# EAGLE library part WIFI-MRF24WB0MA (library Module)
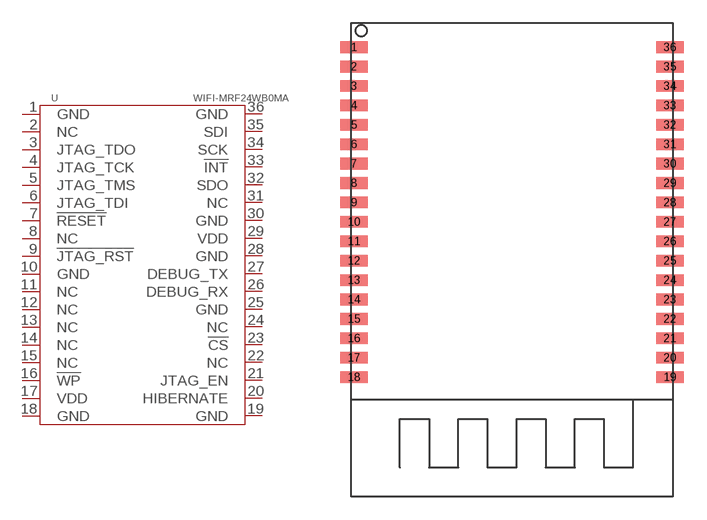
[diagram p14: symbol with the pads of 36P-SMD-31X21; footprint 36P-SMD-31X21]

Designator prefix U

## WIFI-MRF24WB0MA_SMT  [36P-SMD-31X21]
1  GND  pwr
2  NC  hiz
3  JTAG_TDO  out
4  JTAG_TCK  in
5  JTAG_TMS  in
6  JTAG_TDI  in
7  !RESET  in
8  NC  hiz
9  !JTAG_RST  in
10  GND  pwr
11  NC  hiz
12  NC  hiz
13  NC  hiz
14  NC  hiz
15  NC  hiz
16  !WP  in
17  VDD  pwr
18  GND  pwr
19  GND  pwr
20  HIBERNATE  in
21  JTAG_EN  in
22  NC  hiz
23  !CS  in
24  NC  hiz
25  GND  pwr
26  DEBUG_RX  in
27  DEBUG_TX  out
28  GND  pwr
29  VDD  pwr
30  GND  pwr
31  NC  hiz
32  SDO  out
33  !INT  out
34  SCK  in
35  SDI  in
36  GND  pwr

## Footprint 36P-SMD-31X21 (pad centres in mm)
smd 1.778 x 0.762: 1 -10.624,23.695; 2 -10.624,22.425; 3 -10.624,21.155; 4 -10.624,19.885; 5 -10.624,18.615; 6 -10.624,17.345; 7 -10.624,16.075; 8 -10.624,14.805; 9 -10.624,13.535; 10 -10.624,12.265; 11 -10.624,10.995; 12 -10.624,9.725; 13 -10.624,8.455; 14 -10.624,7.185; 15 -10.624,5.915; 16 -10.624,4.645; 17 -10.624,3.375; 18 -10.624,2.105; 19 10.034,2.105; 20 10.034,3.375; 21 10.034,4.645; 22 10.034,5.915; 23 10.034,7.185; 24 10.034,8.455; 25 10.034,9.725; 26 10.034,10.995; 27 10.034,12.265; 28 10.034,13.535; 29 10.034,14.805; 30 10.034,16.075; 31 10.034,17.345; 32 10.034,18.615; 33 10.034,19.885; 34 10.034,21.155; 35 10.034,22.425; 36 10.034,23.695